# EAGLE library part RT4723 (library richtek)
AMOLED Display Voltage Regulator IC 2
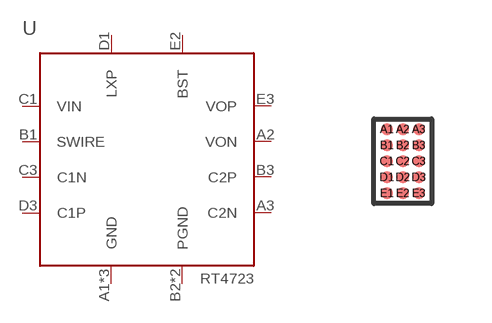
[diagram p0: symbol with the pads of WLCSP-15B; footprint WLCSP-15B]

Designator prefix U

## RT4723 (DIGIKEY: RT4723WSCCT-ND; P1I: o)  [WLCSP-15B]
A1  GND
A2  VON
A3  C2N
B1  SWIRE
B2  PGND
B3  C2P
C1  VIN
C2  GND
C3  C1N
D1  LXP
D2  GND
D3  C1P
E1  PGND
E2  BST
E3  VOP

## Footprint WLCSP-15B (pad centres in mm)
smd 0.3 x 0.3: A1 -0.4,0.8; A2 0,0.8; A3 0.4,0.8; B1 -0.4,0.4; B2 0,0.4; B3 0.4,0.4; C1 -0.4,0; C2 0,0; C3 0.4,0; D1 -0.4,-0.4; D2 0,-0.4; D3 0.4,-0.4; E1 -0.4,-0.8; E2 0,-0.8; E3 0.4,-0.8